# Altium footprint library Chip_kz85.PcbLib: 312 footprints (part 8 of 20)
Each footprint in its own frame and in the unit in brackets; x right, y up, seen from the top. Pads: shape width x height; smd on the part's side, far side on the other; paste and mask are expansions set on the pad; w line width, h text height; cw(c..) or ccw(c..) is an arc to the next point about the centre after c.
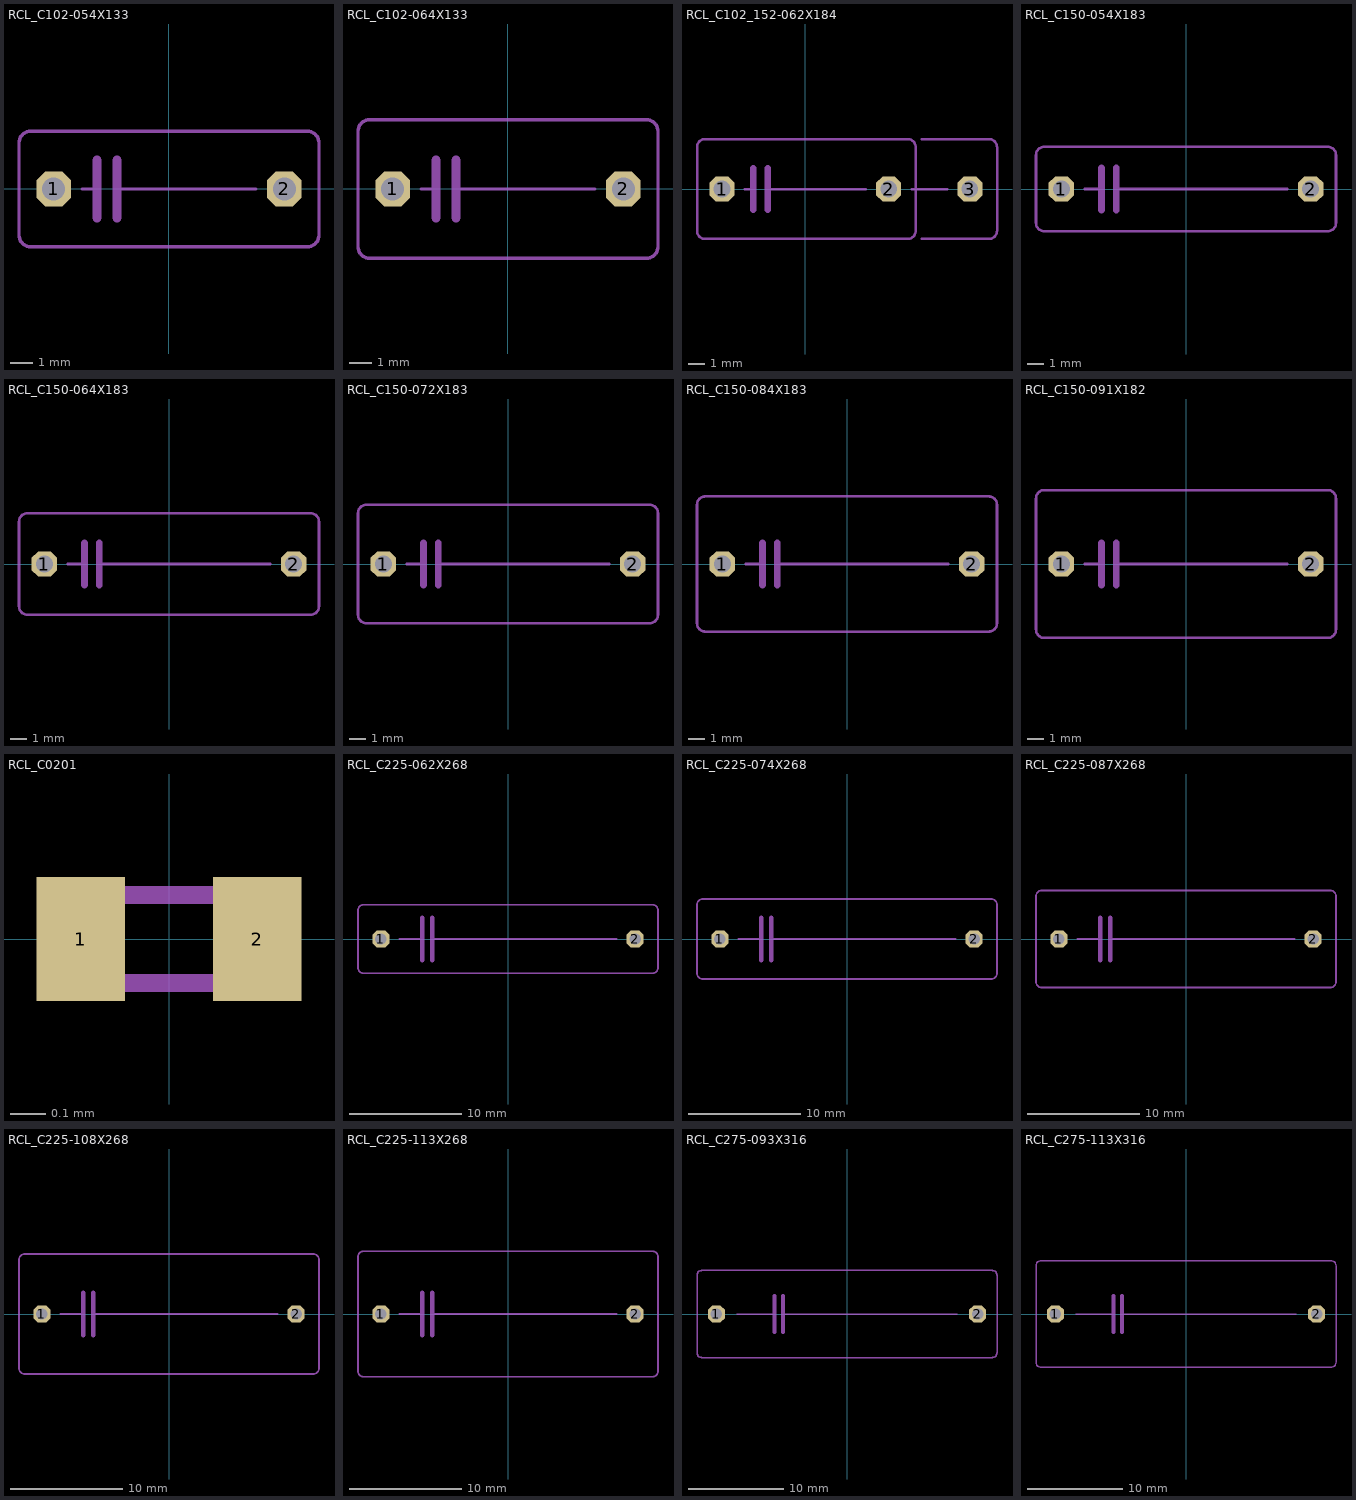
[diagram p7: the footprints below, top view; thin cyan lines are the x and y axes]

## RCL_C102-054X133 [mil]
pads (2):
  oct 60x60 / inner round 55.43 / far side oct 60x60 hole 40: 1(-200,0) 2(200,0)
Mechanical 7:
  lines w6: -150,0 -125,0 ; -90,0 150,0 ; -260,-80 ccw(c-240,-80) -240,-100 240,-100 ccw(c240,-80) 260,-80 260,80 ccw(c240,80) 240,100 -240,100 ccw(c-240,80) -260,80 -260,-80
  lines w16: -125,-50 -125,0 -125,50 ; -90,-50 -90,0 -90,50

## RCL_C102-064X133 [mil]
pads (2):
  oct 60x60 / inner round 55.43 / far side oct 60x60 hole 40: 1(-200,0) 2(200,0)
Mechanical 7:
  lines w6: -150,0 -125,0 ; -90,0 150,0 ; -260,-100 ccw(c-240,-100) -240,-120 240,-120 ccw(c240,-100) 260,-100 260,100 ccw(c240,100) 240,120 -240,120 ccw(c-240,100) -260,100 -260,-100
  lines w16: -125,-50 -125,0 -125,50 ; -90,-50 -90,0 -90,50

## RCL_C102_152-062X184 [mil]
pads (3):
  oct 60x60 / inner round 55.43 / far side oct 60x60 hole 40: 1(-200,0) 2(200,0) 3(395,0)
Mechanical 7:
  lines w6: -145,0 -125,0 ; -90,0 145,0 ; 255,0 340,0 ; 280,-120 440,-120 ccw(c440,-100) 460,-100 460,100 ccw(c440,100) 440,120 280,120 ; -260,-100 ccw(c-240,-100) -240,-120 245,-120 ccw(c245,-100) 265,-100 265,100 ccw(c245,100) 245,120 -240,120 ccw(c-240,100) -260,100 -260,-100
  lines w16: -125,-50 -125,0 -125,50 ; -90,-50 -90,0 -90,50

## RCL_C150-054X183 [mil]
pads (2):
  oct 60x60 / inner round 55.43 / far side oct 60x60 hole 40: 1(-295,0) 2(295,0)
Mechanical 7:
  lines w6: -240,0 -200,0 ; -165,0 240,0 ; -355,-80 ccw(c-335,-80) -335,-100 335,-100 ccw(c335,-80) 355,-80 355,80 ccw(c335,80) 335,100 -335,100 ccw(c-335,80) -355,80 -355,-80
  lines w16: -200,-50 -200,0 -200,50 ; -165,-50 -165,0 -165,50

## RCL_C150-064X183 [mil]
pads (2):
  oct 60x60 / inner round 55.43 / far side oct 60x60 hole 40: 1(-295,0) 2(295,0)
Mechanical 7:
  lines w6: -240,0 -200,0 ; -165,0 240,0 ; -355,-100 ccw(c-335,-100) -335,-120 335,-120 ccw(c335,-100) 355,-100 355,100 ccw(c335,100) 335,120 -335,120 ccw(c-335,100) -355,100 -355,-100
  lines w16: -200,-50 -200,0 -200,50 ; -165,-50 -165,0 -165,50

## RCL_C150-072X183 [mil]
pads (2):
  oct 60x60 / inner round 55.43 / far side oct 60x60 hole 40: 1(-295,0) 2(295,0)
Mechanical 7:
  lines w6: -240,0 -200,0 ; -165,0 240,0 ; -355,-120 ccw(c-335,-120) -335,-140 335,-140 ccw(c335,-120) 355,-120 355,120 ccw(c335,120) 335,140 -335,140 ccw(c-335,120) -355,120 -355,-120
  lines w16: -200,-50 -200,0 -200,50 ; -165,-50 -165,0 -165,50

## RCL_C150-084X183 [mil]
pads (2):
  oct 60x60 / inner round 55.43 / far side oct 60x60 hole 40: 1(-295,0) 2(295,0)
Mechanical 7:
  lines w6: -240,0 -200,0 ; -165,0 240,0 ; -355,-140 ccw(c-335,-140) -335,-160 335,-160 ccw(c335,-140) 355,-140 355,140 ccw(c335,140) 335,160 -335,160 ccw(c-335,140) -355,140 -355,-140
  lines w16: -200,-50 -200,0 -200,50 ; -165,-50 -165,0 -165,50

## RCL_C150-091X182 [mil]
pads (2):
  oct 60x60 / inner round 55.43 / far side oct 60x60 hole 40: 1(-295,0) 2(295,0)
Mechanical 7:
  lines w6: -240,0 -200,0 ; -165,0 240,0 ; -355,-155 ccw(c-335,-155) -335,-175 335,-175 ccw(c335,-155) 355,-155 355,155 ccw(c335,155) 335,175 -335,175 ccw(c-335,155) -355,155 -355,-155
  lines w16: -200,-50 -200,0 -200,50 ; -165,-50 -165,0 -165,50

## RCL_C0201 [mm]
pads (2):
  rect 0.25x0.35 smd: 1(-0.25,0) 2(0.25,0)
Mechanical 3:
  region: -0.3,-0.15 -0.3,0.15 -0.15,0.15 -0.15,-0.15
  region: 0.15,-0.15 0.15,0.15 0.3,0.15 0.3,-0.15
  region: -0.15,0.1 -0.15,0.15 0.15,0.15 0.15,0.1
  region: -0.15,-0.15 -0.15,-0.1 0.15,-0.1 0.15,-0.15

## RCL_C225-062X268 [mil]
pads (2):
  oct 60x60 / inner round 55.43 / far side oct 60x60 hole 40: 1(-445,0) 2(445,0)
Mechanical 7:
  lines w6: -380,0 -300,0 ; -265,0 380,0 ; -525,-100 ccw(c-505,-100) -505,-120 505,-120 ccw(c505,-100) 525,-100 525,100 ccw(c505,100) 505,120 -505,120 ccw(c-505,100) -525,100 -525,-100
  lines w16: -300,-75 -300,0 -300,75 ; -265,-75 -265,0 -265,75

## RCL_C225-074X268 [mil]
pads (2):
  oct 60x60 / inner round 55.43 / far side oct 60x60 hole 40: 1(-445,0) 2(445,0)
Mechanical 7:
  lines w6: -380,0 -300,0 ; -265,0 380,0 ; -525,-120 ccw(c-505,-120) -505,-140 505,-140 ccw(c505,-120) 525,-120 525,120 ccw(c505,120) 505,140 -505,140 ccw(c-505,120) -525,120 -525,-120
  lines w16: -300,-75 -300,0 -300,75 ; -265,-75 -265,0 -265,75

## RCL_C225-087X268 [mil]
pads (2):
  oct 60x60 / inner round 55.43 / far side oct 60x60 hole 40: 1(-445,0) 2(445,0)
Mechanical 7:
  lines w6: -380,0 -300,0 ; -265,0 380,0 ; -525,-150 ccw(c-505,-150) -505,-170 505,-170 ccw(c505,-150) 525,-150 525,150 ccw(c505,150) 505,170 -505,170 ccw(c-505,150) -525,150 -525,-150
  lines w16: -300,-75 -300,0 -300,75 ; -265,-75 -265,0 -265,75

## RCL_C225-108X268 [mil]
pads (2):
  oct 60x60 / inner round 55.43 / far side oct 60x60 hole 40: 1(-445,0) 2(445,0)
Mechanical 7:
  lines w6: -380,0 -300,0 ; -265,0 380,0 ; -525,-190 ccw(c-505,-190) -505,-210 505,-210 ccw(c505,-190) 525,-190 525,190 ccw(c505,190) 505,210 -505,210 ccw(c-505,190) -525,190 -525,-190
  lines w16: -300,-75 -300,0 -300,75 ; -265,-75 -265,0 -265,75

## RCL_C225-113X268 [mil]
pads (2):
  oct 60x60 / inner round 55.43 / far side oct 60x60 hole 40: 1(-445,0) 2(445,0)
Mechanical 7:
  lines w6: -380,0 -300,0 ; -265,0 380,0 ; -525,-200 ccw(c-505,-200) -505,-220 505,-220 ccw(c505,-200) 525,-200 525,200 ccw(c505,200) 505,220 -505,220 ccw(c-505,200) -525,200 -525,-200
  lines w16: -300,-75 -300,0 -300,75 ; -265,-75 -265,0 -265,75

## RCL_C275-093X316 [mil]
pads (2):
  oct 70.5x70.5 / inner round 65.13 / far side oct 70.5x70.5 hole 47: 1(-540,0) 2(540,0)
Mechanical 7:
  lines w6: -455,0 -300,0 ; -265,0 455,0 ; -620,-160 ccw(c-600,-160) -600,-180 600,-180 ccw(c600,-160) 620,-160 620,160 ccw(c600,160) 600,180 -600,180 ccw(c-600,160) -620,160 -620,-160
  lines w16: -300,-75 -300,0 -300,75 ; -265,-75 -265,0 -265,75

## RCL_C275-113X316 [mil]
pads (2):
  oct 70.5x70.5 / inner round 65.13 / far side oct 70.5x70.5 hole 47: 1(-540,0) 2(540,0)
Mechanical 7:
  lines w6: -455,0 -300,0 ; -265,0 455,0 ; -620,-200 ccw(c-600,-200) -600,-220 600,-220 ccw(c600,-200) 620,-200 620,200 ccw(c600,200) 600,220 -600,220 ccw(c-600,200) -620,200 -620,-200
  lines w16: -300,-75 -300,0 -300,75 ; -265,-75 -265,0 -265,75